# EAGLE library part FUBARINO_MINI (library SchmalzHausPublic)
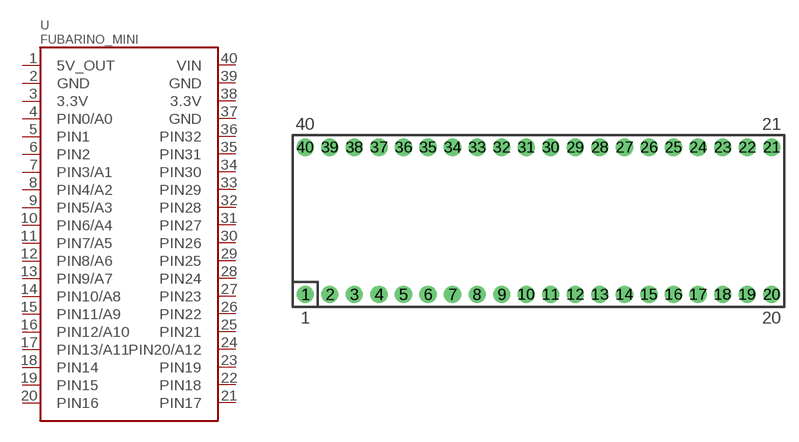
[diagram p5: symbol with the pads of FUBARINO_MINI; footprint FUBARINO_MINI]

Designator prefix -

## FUBARINO_MINI  [FUBARINO_MINI]
1  5V_OUT
2  GND
3  3.3V
4  PIN0/A0
5  PIN1
6  PIN2
7  PIN3/A1
8  PIN4/A2
9  PIN5/A3
10  PIN6/A4
11  PIN7/A5
12  PIN8/A6
13  PIN9/A7
14  PIN10/A8
15  PIN11/A9
16  PIN12/A10
17  PIN13/A11
18  PIN14
19  PIN15
20  PIN16
21  PIN17
22  PIN18
23  PIN19
24  PIN20/A12
25  PIN21
26  PIN22
27  PIN23
28  PIN24
29  PIN25
30  PIN26
31  PIN27
32  PIN28
33  PIN29
34  PIN30
35  PIN31
36  PIN32
37  GND
38  3.3V
39  GND
40  VIN

## Footprint FUBARINO_MINI (pad centres in mm)
drill 1 pad 1.778: 1 -24.13,-7.62; 2 -21.59,-7.62; 3 -19.05,-7.62; 4 -16.51,-7.62; 5 -13.97,-7.62; 6 -11.43,-7.62; 7 -8.89,-7.62; 8 -6.35,-7.62; 9 -3.81,-7.62; 10 -1.27,-7.62; 11 1.27,-7.62; 12 3.81,-7.62; 13 6.35,-7.62; 14 8.89,-7.62; 15 11.43,-7.62; 16 13.97,-7.62; 17 16.51,-7.62; 18 19.05,-7.62; 19 21.59,-7.62; 20 24.13,-7.62; 21 24.13,7.62; 22 21.59,7.62; 23 19.05,7.62; 24 16.51,7.62; 25 13.97,7.62; 26 11.43,7.62; 27 8.89,7.62; 28 6.35,7.62; 29 3.81,7.62; 30 1.27,7.62; 31 -1.27,7.62; 32 -3.81,7.62; 33 -6.35,7.62; 34 -8.89,7.62; 35 -11.43,7.62; 36 -13.97,7.62; 37 -16.51,7.62; 38 -19.05,7.62; 39 -21.59,7.62; 40 -24.13,7.62